# EAGLE library part ICL7665SAIBAZA (library Intersil_By_element14_Batch_1)
CMOS Micropower Over/Under Voltage Detector
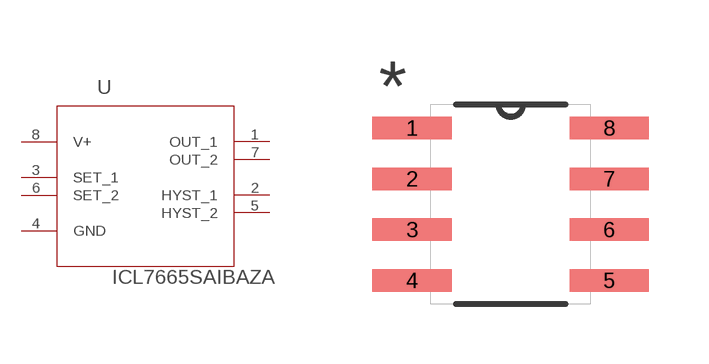
[diagram p194: symbol with the pads of SOIC127P600X175-8N; footprint SOIC127P600X175-8N]

Designator prefix U

## ICL7665SAIBAZA (MPN: ICL7665SAIBAZA; OC_FARNELL: -; OC_NEWARK: 61J6211; PACKAGE: SOIC-8; SUPPLIER: INTERSIL)  [SOIC127P600X175-8N]
1  OUT_1  out
2  HYST_1  out
3  SET_1  in
4  GND  pas
5  HYST_2  out
6  SET_2  in
7  OUT_2  out
8  V+  pwr

## Footprint SOIC127P600X175-8N (pad centres in mm)
smd 1.981 x 0.559: 1 -2.464,1.905; 2 -2.464,0.635; 3 -2.464,-0.635; 4 -2.464,-1.905; 5 2.464,-1.905; 6 2.464,-0.635; 7 2.464,0.635; 8 2.464,1.905